# EAGLE library part PS3_BUTTONS_PAD (library IntelMKR_ExpP)
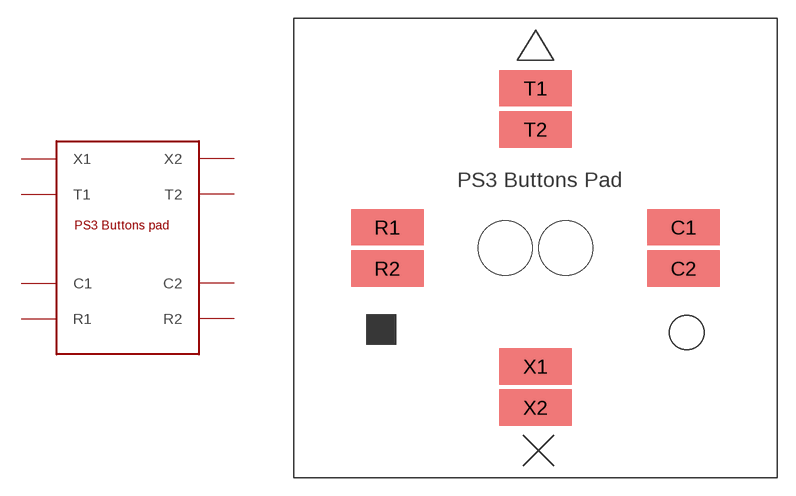
[diagram p4: symbol with the pads of PS3_BUTTONS_PAD; footprint PS3_BUTTONS_PAD]

Designator prefix -

## PS3_BUTTONS_PAD  [PS3_BUTTONS_PAD]
C1  C1
C2  C2
R1  R1
R2  R2
T1  T1
T2  T2
X1  X1
X2  X2

## Footprint PS3_BUTTONS_PAD (pad centres in mm)
smd 6 x 3: C1 12.25,1.7; C2 12.25,-1.7; R1 -12.25,1.7; R2 -12.25,-1.7; T1 0,13.2; T2 0,9.8; X1 0,-9.8; X2 0,-13.2
hole 4.5 at -2.5,0
hole 4.5 at 2.5,0